# EAGLE library part SI9986 (library m_ic-power)
Buffered H-Bridge DESCRIPTION The Si9986 is an integrated, buffered H-bridge with TTL compatible inputs and the capability of delivering a continuous 1.0 A at VDD = 12 V (room temperature) at switching rates up to 200 kHz. Internal logic prevents the upper and lower outputs of either half-bridge from being turned on simultaneously. Unique input codes allow both outputs to be forced low (for braking) or forced to a high impedance level. The Si9986 is available in both standard and lead (Pb)-free, 8-pin SOIC packages, specified to operate over a voltage range of 3.8 V to 13.2 V, and the commercial temperature range of 0 to 70 °C (C suffix) and the industrial temperature range of - 40 to 85 °C (D suffix). Features 1.0 A H-Bridge 200 kHz Switching Rate Shoot-Through Limited TTL Compatible Inputs 3.8 to 13.2 V Operating Range Surface Mount Packaging
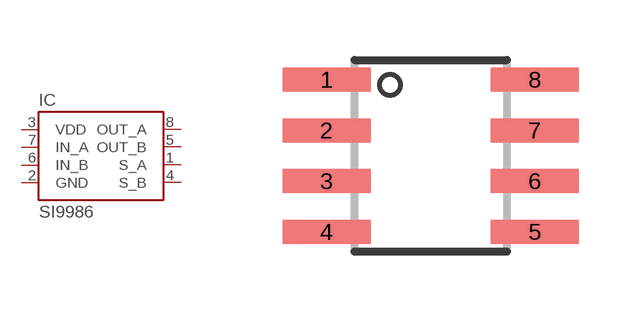
[diagram p8: symbol with the pads of SO08; footprint SO08]

Designator prefix IC

## SI9986 (MANUF: Vishay; PARTNUM: Si9986xx)  [SO08]
1  S_A
2  GND
3  VDD
4  S_B
5  OUT_B
6  IN_B
7  IN_A
8  OUT_A

## Footprint SO08 (pad centres in mm)
Small Outline Package 8 NS Package M08A
smd 2.2 x 0.6: 1 -2.604,1.905; 2 -2.604,0.635; 3 -2.604,-0.635; 4 -2.604,-1.905; 5 2.604,-1.905; 6 2.604,-0.635; 7 2.604,0.635; 8 2.604,1.905